# Altium schematic symbol library Schlib.SchLib: 3 symbols
Pins are listed as number, name and electrical type; pins without a type are passive.

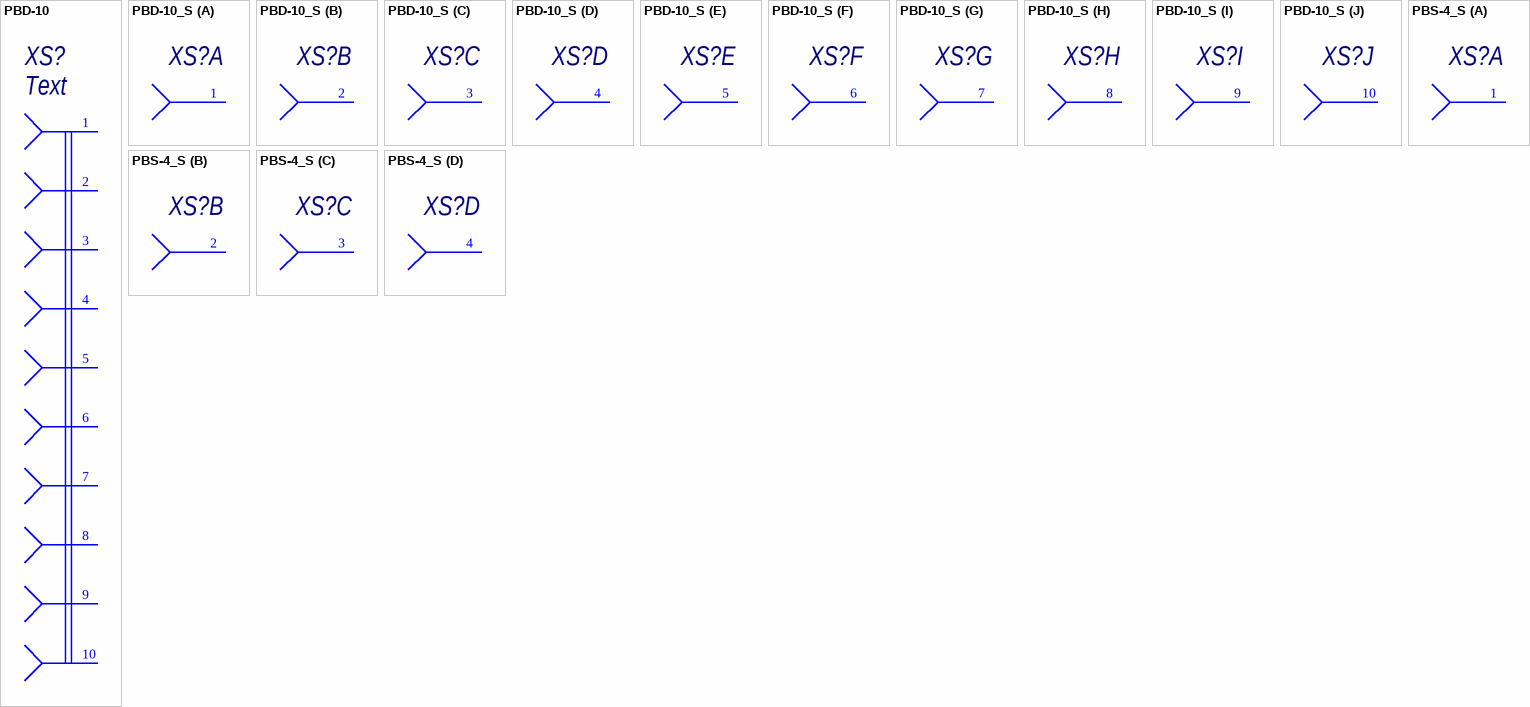
[diagram p0: symbols PBD-10 to PBS-4_S]

## PBD-10
designator XS?, comment Text
Value: PBD-10; Functional Analog: DS-1023-2x5; Published: 07.03.2013; Publisher: Andrew Danich; Type: Розетка
footprint PBD-10
pins: 1, 2, 3, 4, 5, 6, 7, 8, 9, 10

## PBD-10_S
designator XS?
Functional Analog: DS-1023-2x5; Value: PBD-10; Published: 07.09.2015; Publisher: Andrew Danich; Type: Розетка
footprint PBD-10
part A pins: 1
part B pins: 2
part C pins: 3
part D pins: 4
part E pins: 5
part F pins: 6
part G pins: 7
part H pins: 8
part I pins: 9
part J pins: 10

## PBS-4_S
designator XS?
Value: PBS-4; Published: 07.09.2015; Publisher: Andrew Danich; Type: Розетка
footprint PBS-4
part A pins: 1
part B pins: 2
part C pins: 3
part D pins: 4